# Altium footprint library SOT23-5.PcbLib: 1 footprints
Each footprint in its own frame and in the unit in brackets; x right, y up, seen from the top. Pads: shape width x height; smd on the part's side, far side on the other; paste and mask are expansions set on the pad; w line width, h text height; cw(c..) or ccw(c..) is an arc to the next point about the centre after c.
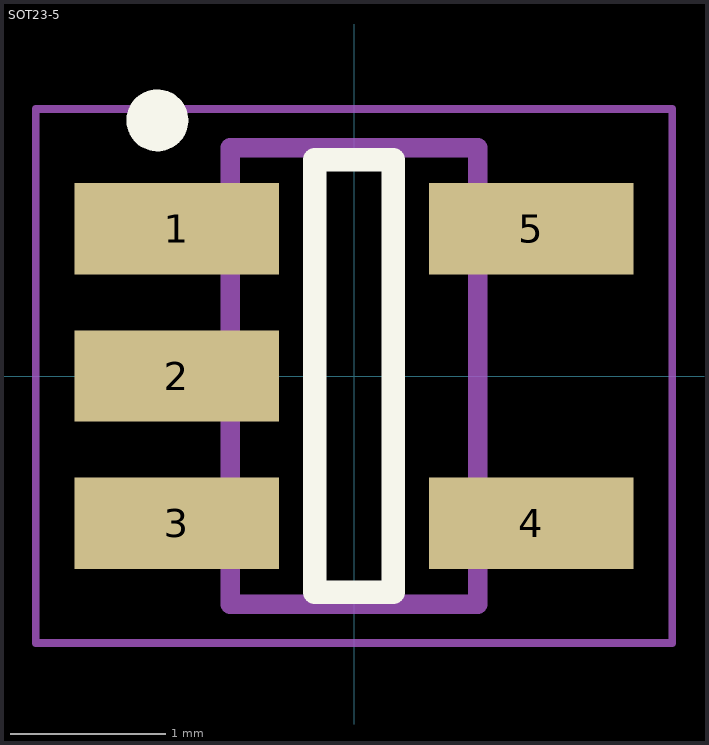
[diagram p0: the footprint, top view; thin cyan lines are the x and y axes]

## SOT23-5 [mm]
pads (5):
  rect 1.32x0.59 smd: 1(-1.145,0.95) 2(-1.145,0) 3(-1.145,-0.95) 4(1.145,-0.95) 5(1.145,0.95)
Top Overlay:
  circle w0.2: c-1.27,1.651 r0.1
  lines w0.15: -0.254,-1.397 0.254,-1.397 0.254,1.397 -0.254,1.397 -0.254,-1.397
Mechanical 13:
  lines w0.127: -0.8,-1.475 0.8,-1.475 0.8,1.475 -0.8,1.475 -0.8,-1.475
Mechanical 15:
  lines w0.05: -2.055,-1.725 -2.055,1.725 2.055,1.725 2.055,-1.725 -2.055,-1.725
3D body "step_temp.STEP": height 1.45, standoff 0, extent -1.4,-1.45 1.4,1.45